# Altium footprint library Devices.PcbLib: 190 footprints (part 6 of 12)
Each footprint in its own frame and in the unit in brackets; x right, y up, seen from the top. Pads: shape width x height; smd on the part's side, far side on the other; paste and mask are expansions set on the pad; w line width, h text height; cw(c..) or ccw(c..) is an arc to the next point about the centre after c.
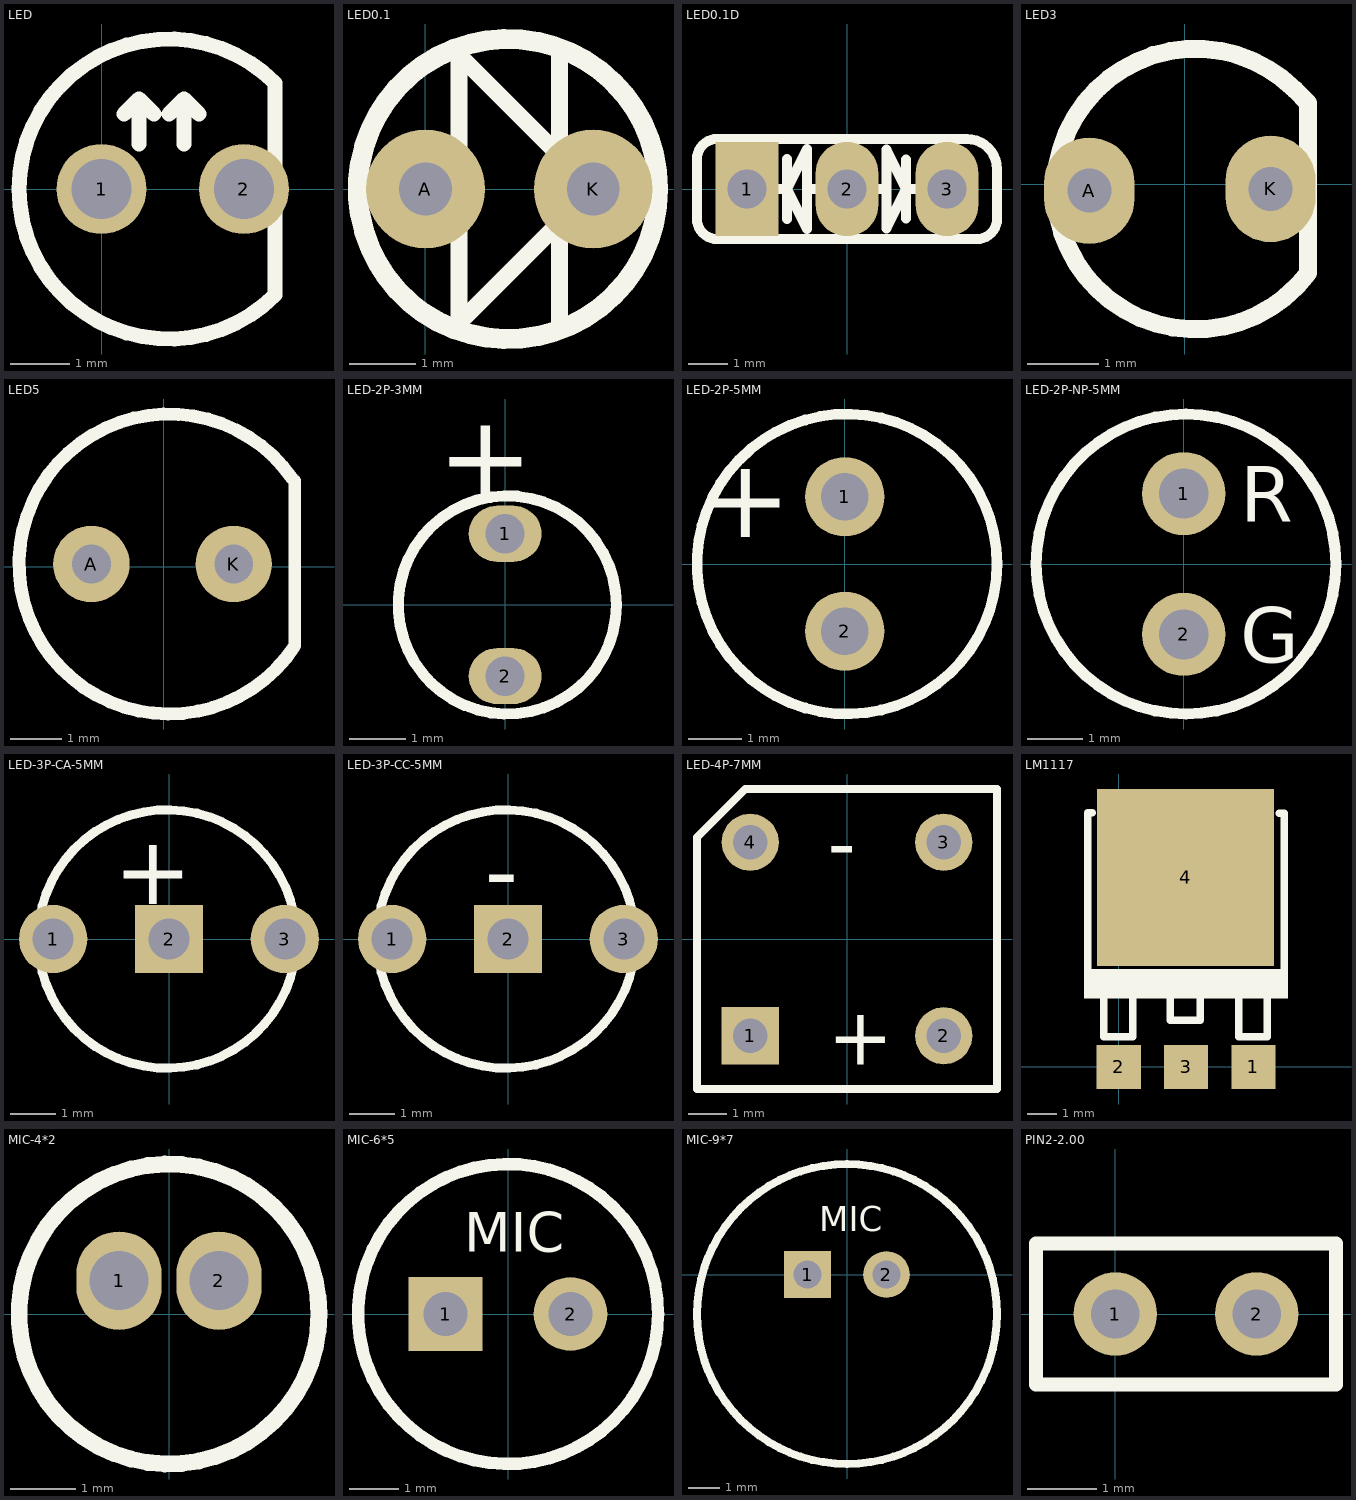
[diagram p5: the footprints below, top view; thin cyan lines are the x and y axes]

## LED [mil]
pads (2):
  round 60 hole 40: 1(0,0) 2(95,0)
Top Overlay:
  lines w10: 15,50 25,60 ; 25,30 25,60 ; 35,50 25,60 ; 45,50 55,60 ; 55,30 55,60 ; 65,50 55,60 ; 115.71,-70.71 cw(c45,0) 115.71,70.71 115.71,-70.71

## LED0.1 [mm]
pads (2):
  round 1.8 hole 0.8: A(0,0) K(2.54,0)
Top Overlay:
  circle w0.305: c1.25,0 r2.272
  lines w0.254: 2.032,-2.032 2.032,2.032 ; 2.032,-0.508 0.508,-2.032 0.508,2.032 2.032,0.508

## LED0.1D [mm]
pads (3):
  rect 1.6x2.4 hole 1: 1(-2.54,0)
  oval 1.6x2.4 hole 1: 2(0,0) 3(2.54,0)
Top Overlay:
  lines w0.254: -2.032,0 -1.524,0 ; -1.524,-0.762 -1.524,0.762 ; -1.016,0 -0.508,0 ; 0.762,0 1,0 ; 1.496,-0.754 1.496,0.746 ; 2.032,0 1.5,0 ; -1.524,0 -1.016,1.016 -1.016,-1.016 -1.524,0 ; 1,1 1.5,0 ; 1,1 1.5,0 ; 1,1 1,-1 1.5,0 ; -3.81,-0.762 ccw(c-3.302,-0.762) -3.302,-1.27 3.302,-1.27 ccw(c3.302,-0.762) 3.81,-0.762 3.81,0.508 ccw(c3.048,0.508) 3.048,1.27 -3.302,1.27 ccw(c-3.302,0.762) -3.81,0.762 -3.81,-0.762

## LED3 [mm]
pads (2):
  oval 1.27x1.5 hole 0.62: A(-1.346,-0.089) K(1.206,-0.064)
Top Overlay:
  lines w0.254: 1.548,1.332 ccw(c0.151,-0.065) 1.732,-1.25 1.732,1.149 1.548,1.332

## LED5 [mm]
pads (2):
  round 1.5 hole 0.762: A(-1.416,0.054) K(1.378,0.054)
Top Overlay:
  lines w0.254: 2.525,1.738 ccw(c0.108,0.054) 2.578,-1.551 2.578,1.685

## LED-2P-3MM [mm]
height 5.4
pads (2):
  oval 1.3x1 hole 0.7: 1(0,1.27) 2(0,-1.27)
Top Overlay:
  circle w0.2: c0.04,0 r1.945
  text "+" at 0.508,1.905 h1.5

## LED-2P-5MM [mm]
height 8
pads (2):
  round 1.5 hole 0.9: 1(0,1.27) 2(0,-1.27)
Top Overlay:
  circle w0.2: c0.04,0 r2.834
  text "+" at -1.016,0.508 h1.5

## LED-2P-NP-5MM [mm]
height 8
pads (2):
  round 1.5 hole 0.9: 1(0,1.27) 2(0,-1.27)
Top Overlay:
  circle w0.2: c0.04,0 r2.707
  text "G" at 1.016,-1.778 h1
  text "R" at 1.016,0.762 h1

## LED-3P-CA-5MM [mm]
height 8
pads (3):
  round 1.5 hole 0.9: 1(-2.54,0) 3(2.54,0)
  rect 1.5x1.5 hole 0.9: 2(0,0)
Top Overlay:
  circle w0.2: c-0.04,0 r2.834
  text "+" at 0.508,0.762 h1.5

## LED-3P-CC-5MM [mm]
height 8
pads (3):
  round 1.5 hole 0.9: 1(-2.54,0) 3(2.54,0)
  rect 1.5x1.5 hole 0.9: 2(0,0)
Top Overlay:
  circle w0.2: c-0.04,0 r2.834
  text "-" at -0.508,0.762 h1.5

## LED-4P-7MM [mm]
height 5
pads (4):
  rect 1.5x1.5 hole 0.9: 1(-2.54,-2.54)
  round 1.5 hole 0.9: 2(2.54,-2.54) 3(2.54,2.54) 4(-2.54,2.54)
Top Overlay:
  lines w0.2: -3.937,-3.937 3.937,-3.937 3.937,3.937 -2.667,3.937 -3.937,2.667 -3.937,-3.937
  text "-" at -0.508,1.778 h1.5
  text "+" at -0.508,-3.302 h1.5

## LM1117 [mm]
height 12.93
pads (4):
  rect 1.5x1.5 smd: 1(4.572,0) 2(0,0) 3(2.286,0)
  rect 6x6 smd: 4(2.272,6.425)
Top Overlay:
  rectangle: -1.178,2.325 5.747,3.325
  lines w0.254: -1.053,3.15 -1.053,8.625 ; -1.028,8.625 -0.903,8.625 ; -0.503,2.275 -0.503,1.025 0.472,1.025 0.472,2.3 ; 1.747,2.275 1.747,1.575 2.772,1.575 2.772,2.375 ; 4.072,2.275 4.072,1.025 5.047,1.025 5.047,2.3 ; 5.447,8.6 5.597,8.6 ; 5.622,3.175 5.622,8.6

## MIC-4*2 [mm]
pads (2):
  oval 1.3x1.5 hole 0.9: 1(-0.762,0.508) 2(0.762,0.508)
Top Overlay:
  circle w0.254: c0,0 r2.286

## MIC-6*5 [mm]
pads (2):
  rect 1.5x1.5 hole 0.9: 1(-1.27,0)
  round 1.5 hole 0.9: 2(1.27,0)
Top Overlay:
  circle w0.254: c0,0 r3.048
  text "MIC" at -0.889,1.27 h0.8

## MIC-9*7 [mm]
pads (2):
  rect 1.5x1.5 hole 0.9: 1(-1.27,0)
  round 1.5 hole 0.9: 2(1.27,0)
Top Overlay:
  circle w0.254: c0,-1.27 r4.826
  text "MIC" at -0.889,1.397 h0.8

## PIN2-2.00 [mm] "热敏电阻NTC-MF52AT"
pads (2):
  round 1.2 hole 0.7: 1(0,0) 2(2.032,0)
Top Overlay:
  lines w0.2: -1.143,-1.016 -1.143,1.016 3.175,1.016 3.175,-1.016 -1.143,-1.016